# EAGLE library part 87368-28_S (library untitled)
RECEPTACAL
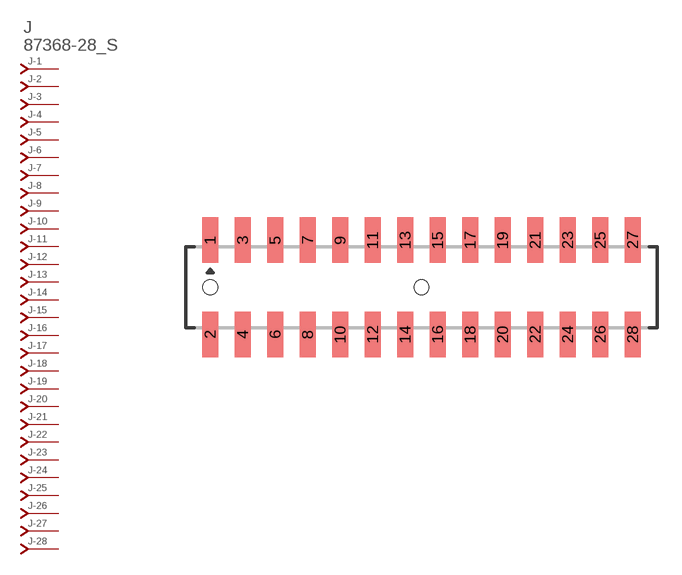
[diagram p315: symbol with the pads of 87368-28; footprint 87368-28]

Designator prefix J; gates -1=J-NV -2=J-N -3=J-N -4=J-N -5=J-N -6=J-N -7=J-N -8=J-N -9=J-N -10=J-N -11=J-N -12=J-N -13=J-N -14=J-N -15=J-N -16=J-N -17=J-N -18=J-N -19=J-N -20=J-N -21=J-N -22=J-N -23=J-N -24=J-N -25=J-N -26=J-N -27=J-N -28=J-N

## 87368-28_S  [87368-28]
1  -1:J  pas
2  -2:J  pas
3  -3:J  pas
4  -4:J  pas
5  -5:J  pas
6  -6:J  pas
7  -7:J  pas
8  -8:J  pas
9  -9:J  pas
10  -10:J  pas
11  -11:J  pas
12  -12:J  pas
13  -13:J  pas
14  -14:J  pas
15  -15:J  pas
16  -16:J  pas
17  -17:J  pas
18  -18:J  pas
19  -19:J  pas
20  -20:J  pas
21  -21:J  pas
22  -22:J  pas
23  -23:J  pas
24  -24:J  pas
25  -25:J  pas
26  -26:J  pas
27  -27:J  pas
28  -28:J  pas

## Footprint 87368-28 (pad centres in mm)
RECEPTACAL SMD Dual Row, Side Entry
smd 1 x 2.8: 1 -13,2.9; 2 -13,-2.9; 3 -11,2.9; 4 -11,-2.9; 5 -9,2.9; 6 -9,-2.9; 7 -7,2.9; 8 -7,-2.9; 9 -5,2.9; 10 -5,-2.9; 11 -3,2.9; 12 -3,-2.9; 13 -1,2.9; 14 -1,-2.9; 15 1,2.9; 16 1,-2.9; 17 3,2.9; 18 3,-2.9; 19 5,2.9; 20 5,-2.9; 21 7,2.9; 22 7,-2.9; 23 9,2.9; 24 9,-2.9; 25 11,2.9; 26 11,-2.9; 27 13,2.9; 28 13,-2.9
hole 0.914 at -13,0
hole 0.914 at 0,0